# Altium schematic symbol library ATSAM3x8E_BGA.SchLib: 18 symbols
Pins are listed as number, name and electrical type; pins without a type are passive.

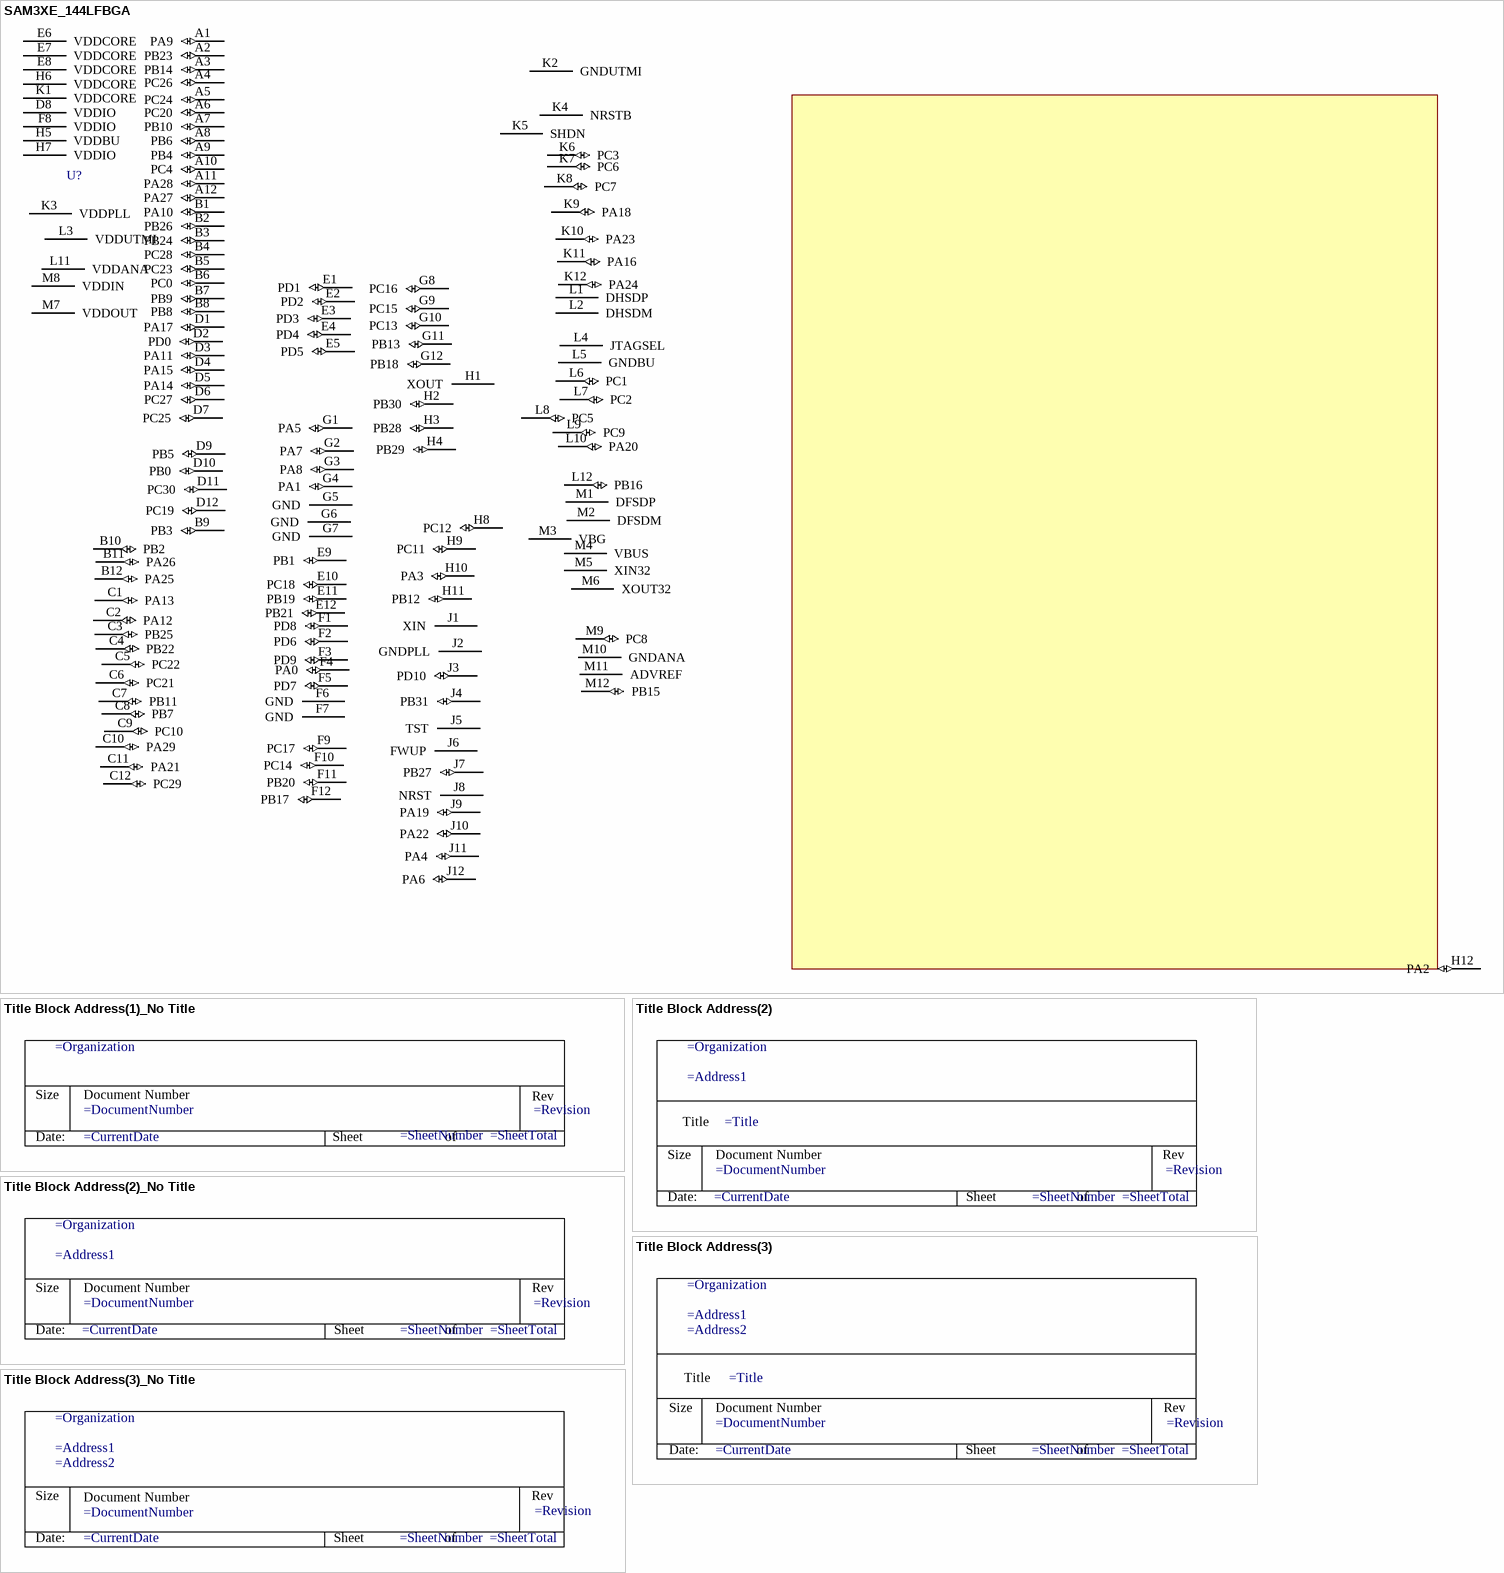
[diagram p0: symbols SAM3XE_144LFBGA to Title Block Address(3)_No Title]

## SAM3XE_144LFBGA
designator U?  (value not drawn)  (graphical)
pins: A1 PA9 (io), A2 PB23 (io), A3 PB14 (io), A4 PC26 (io), A5 PC24 (io), A6 PC20 (io), A7 PB10 (io), A8 PB6 (io), A9 PB4 (io), A10 PC4 (io), A11 PA28 (io), A12 PA27 (io), B1 PA10 (io), B2 PB26 (io), B3 PB24 (io), B4 PC28 (io), B5 PC23 (io), B6 PC0 (io), B7 PB9 (io), B8 PB8 (io), B9 PB3 (io), B10 PB2 (io), B11 PA26 (io), B12 PA25 (io), C1 PA13 (io), C2 PA12 (io), C3 PB25 (io), C4 PB22 (io), C5 PC22 (io), C6 PC21 (io), C7 PB11 (io), C8 PB7 (io), C9 PC10 (io), C10 PA29 (io), C11 PA21 (io), C12 PC29 (io), D1 PA17 (io), D2 PD0 (io), D3 PA11 (io), D4 PA15 (io), D5 PA14 (io), D6 PC27 (io), D7 PC25 (io), D8 VDDIO (power), D9 PB5 (io), D10 PB0 (io), D11 PC30 (io), D12 PC19 (io), E1 PD1 (io), E2 PD2 (io), E3 PD3 (io), E4 PD4 (io), E5 PD5 (io), E6 VDDCORE (power), E7 VDDCORE (power), E8 VDDCORE (power), E9 PB1 (io), E10 PC18 (io), E11 PB19 (io), E12 PB21 (io), F1 PD8 (io), F2 PD6 (io), F3 PD9 (io), F4 PA0 (io), F5 PD7 (io), F6 GND (power), F7 GND (power), F8 VDDIO (power), F9 PC17 (io), F10 PC14 (io), F11 PB20 (io), F12 PB17 (io), G1 PA5 (io), G2 PA7 (io), G3 PA8 (io), G4 PA1 (io), G5 GND (power), G6 GND (power), G7 GND (power), G8 PC16 (io), G9 PC15 (io), G10 PC13 (io), G11 PB13 (io), G12 PB18 (io), H1 XOUT, H2 PB30 (io), H3 PB28 (io), H4 PB29 (io), H5 VDDBU (power), H6 VDDCORE (power), H7 VDDIO (power), H8 PC12 (io), H9 PC11 (io), H10 PA3 (io), H11 PB12 (io), H12 PA2 (io), J1 XIN, J2 GNDPLL (power), J3 PD10 (io), J4 PB31 (io), J5 TST, J6 FWUP, J7 PB27 (io), J8 NRST, J9 PA19 (io), J10 PA22 (io), J11 PA4 (io), J12 PA6 (io), K1 VDDCORE (power), K2 GNDUTMI (power), K3 VDDPLL (power), K4 NRSTB, K5 SHDN, K6 PC3 (io), K7 PC6 (io), K8 PC7 (io), K9 PA18 (io), K10 PA23 (io), K11 PA16 (io), K12 PA24 (io), L1 DHSDP, L2 DHSDM, L3 VDDUTMI (power), L4 JTAGSEL, L5 GNDBU (power), L6 PC1 (io), L7 PC2 (io), L8 PC5 (io), L9 PC9 (io), L10 PA20 (io), L11 VDDANA (power), L12 PB16 (io), M1 DFSDP, M2 DFSDM, M3 VBG, M4 VBUS, M5 XIN32, M6 XOUT32, M7 VDDOUT (power), M8 VDDIN (power), M9 PC8 (io), M10 GNDANA (power), M11 ADVREF, M12 PB15 (io)

## Title Block Address(1)_No Title
designator ?  (graphical)
Total Sheets: =SheetTotal; Sheet Number: =SheetNumber; Organization Name: =Organization; Revision Number: =Revision; Date: =CurrentDate; Document Number: =DocumentNumber
text: Size; Document Number; Rev; Date:; Sheet; of

## Title Block Address(2)
designator ?  (graphical)
Total Sheets: =SheetTotal; Sheet Number: =SheetNumber; Organization Address 1: =Address1; Organization Name: =Organization; Revision Number: =Revision; Date: =CurrentDate; Document Number: =DocumentNumber; Sheet Title: =Title
text: Title; Size; Document Number; Rev; Date:; Sheet; of

## Title Block Address(2)_No Title
designator ?  (graphical)
Total Sheets: =SheetTotal; Sheet Number: =SheetNumber; Organization Address 1: =Address1; Organization Name: =Organization; Revision Number: =Revision; Date: =CurrentDate; Document Number: =DocumentNumber
text: Size; Document Number; Rev; Date:; Sheet; of

## Title Block Address(3)
designator ?  (graphical)
Revision Number: =Revision; Organization Name: =Organization; Organization Address 1: =Address1; Organization Address 2: =Address2; Sheet Number: =SheetNumber; Total Sheets: =SheetTotal; Date: =CurrentDate; Document Number: =DocumentNumber; Sheet Title: =Title
text: Title; Size; Document Number; Rev; Date:; Sheet; of

## Title Block Address(3)_No Title
designator ?  (graphical)
Revision Number: =Revision; Organization Name: =Organization; Organization Address 1: =Address1; Organization Address 2: =Address2; Sheet Number: =SheetNumber; Total Sheets: =SheetTotal; Date: =CurrentDate; Document Number: =DocumentNumber
text: Size; Rev; Document Number; Date:; Sheet; of

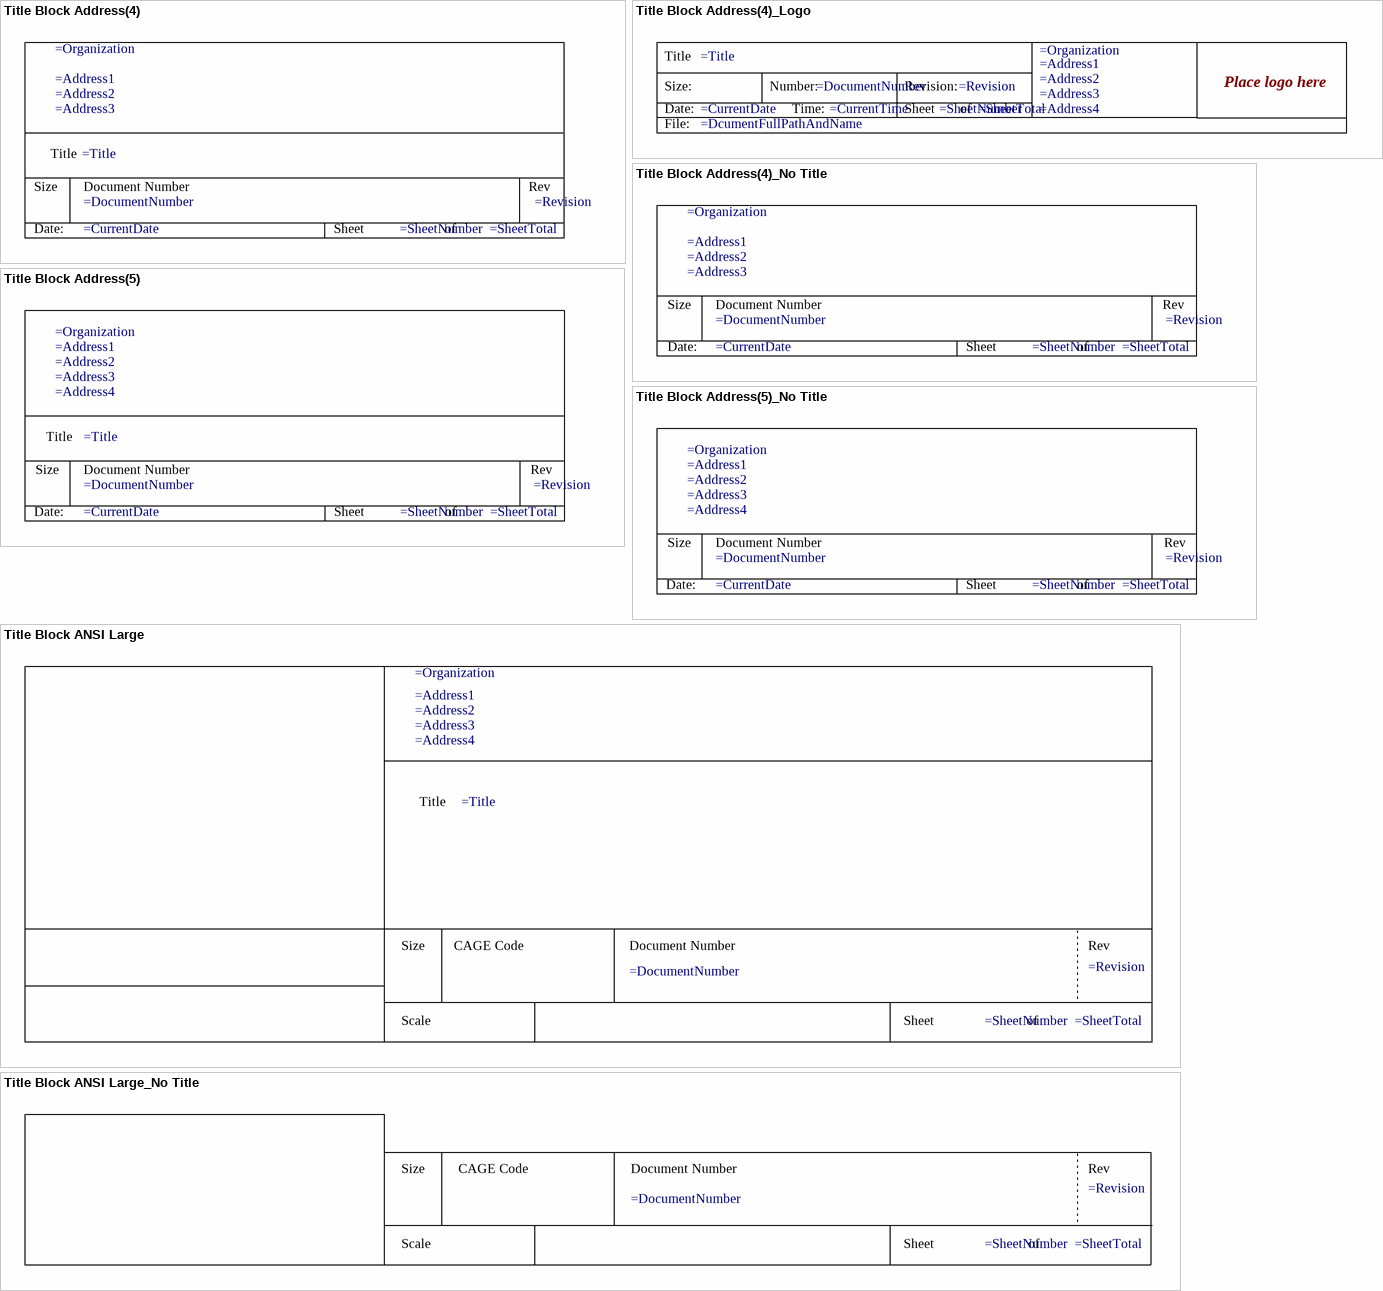
[diagram p1: symbols Title Block Address(4) to Title Block ANSI Large_No Title]

## Title Block Address(4)
designator ?  (graphical)
Total Sheets: =SheetTotal; Sheet Number: =SheetNumber; Organization Address 3: =Address3; Organization Address 2: =Address2; Organization Address 1: =Address1; Organization Name: =Organization; Revision Number: =Revision; Date: =CurrentDate; Document Number: =DocumentNumber; Sheet Title: =Title
text: Title; Size; Document Number; Rev; Date:; Sheet; of

## Title Block Address(4)_Logo
designator ?  (graphical)
Sheet Title: =Title; Document Number: =DocumentNumber; Organization Name: =Organization; Revision Number: =Revision; Organization Address 1: =Address1; Organization Address 2: =Address2; Organization Address 3: =Address3; Organization Address 4: =Address4; Date: =CurrentDate; Time: =CurrentTime; Document Path and Name: =DcumentFullPathAndName; Total Sheets: =SheetTotal; Sheet Number: =SheetNumber
text: Title; Size:; Number:; Revision:; Place logo here; Date:; Time:; Sheet; of; File:

## Title Block Address(4)_No Title
designator ?  (graphical)
Total Sheets: =SheetTotal; Sheet Number: =SheetNumber; Organization Address 3: =Address3; Organization Address 2: =Address2; Organization Address 1: =Address1; Organization Name: =Organization; Revision Number: =Revision; Date: =CurrentDate; Document Number: =DocumentNumber
text: Size; Document Number; Rev; Date:; Sheet; of

## Title Block Address(5)
designator ?  (graphical)
Revision Number: =Revision; Organization Name: =Organization; Organization Address 1: =Address1; Organization Address 2: =Address2; Organization Address 3: =Address3; Organization Address 4: =Address4; Sheet Number: =SheetNumber; Total Sheets: =SheetTotal; Date: =CurrentDate; Document Number: =DocumentNumber; Sheet Title: =Title
text: Title; Size; Document Number; Rev; Date:; Sheet; of

## Title Block Address(5)_No Title
designator ?  (graphical)
Revision Number: =Revision; Organization Name: =Organization; Organization Address 1: =Address1; Organization Address 2: =Address2; Organization Address 3: =Address3; Organization Address 4: =Address4; Sheet Number: =SheetNumber; Total Sheets: =SheetTotal; Date: =CurrentDate; Document Number: =DocumentNumber
text: Size; Document Number; Rev; Date:; Sheet; of

## Title Block ANSI Large
designator ?  (graphical)
Revision Number: =Revision; Organization Address 3: =Address3; Organization Address 2: =Address2; Organization Address 1: =Address1; Total Sheets: =SheetTotal; Sheet Number: =SheetNumber; Organization Name: =Organization; Organization Address 4: =Address4; Document Number: =DocumentNumber; Sheet Title: =Title
text: Title; Size; CAGE Code; Document Number; Rev; Scale; Sheet; of

## Title Block ANSI Large_No Title
designator ?  (graphical)
Total Sheets: =SheetTotal; Sheet Number: =SheetNumber; Revision Number: =Revision; Document Number: =DocumentNumber
text: Size; CAGE Code; Document Number; Rev; Scale; Sheet; of

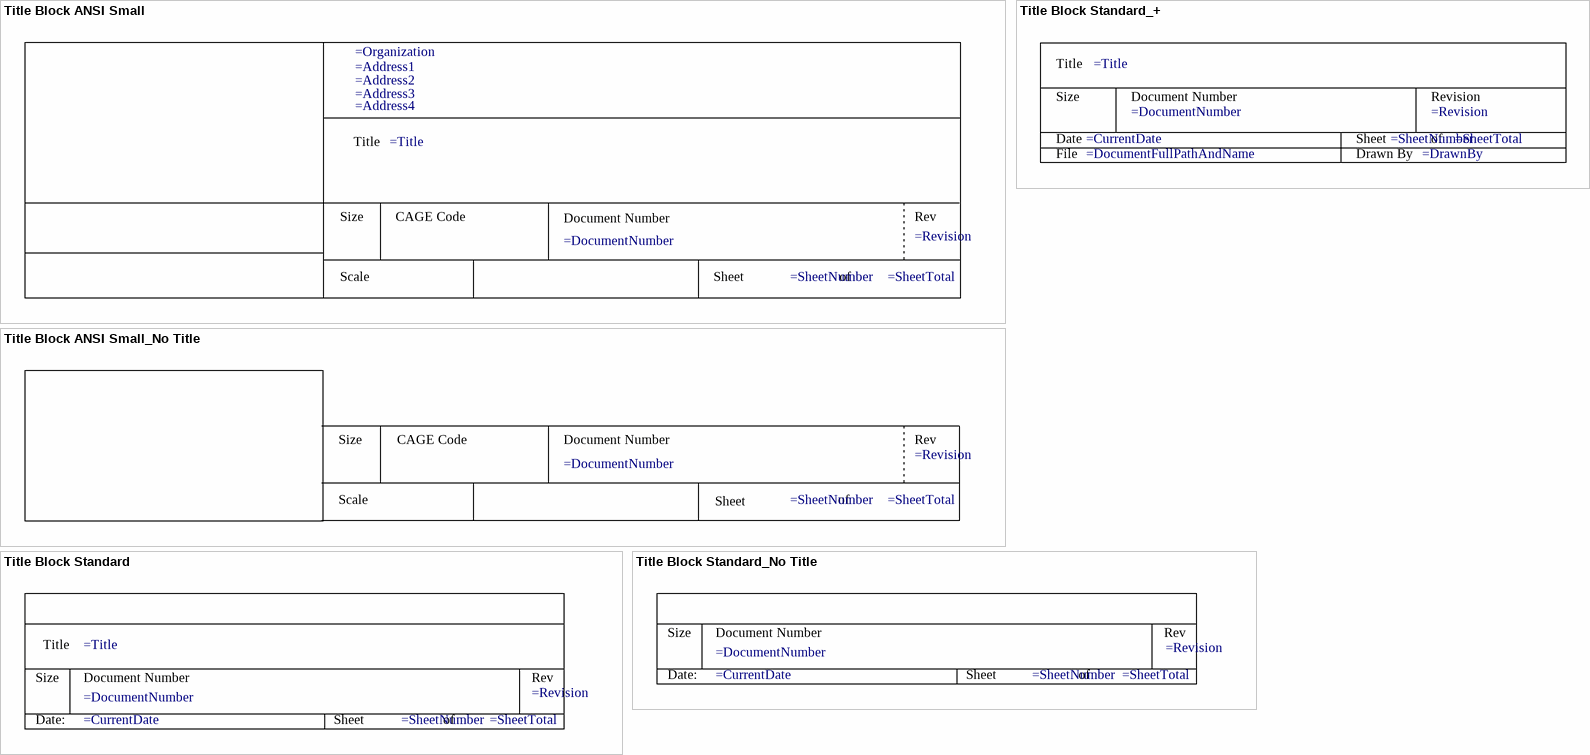
[diagram p2: symbols Title Block ANSI Small to Title Block Standard_No Title]

## Title Block ANSI Small
designator ?  (graphical)
Organization Address 4: =Address4; Revision Number: =Revision; Organization Name: =Organization; Sheet Number: =SheetNumber; Total Sheets: =SheetTotal; Organization Address 1: =Address1; Organization Address 2: =Address2; Organization Address 3: =Address3; Sheet Title: =Title; Document Number: =DocumentNumber
text: Title; Size; CAGE Code; Rev; Document Number; Scale; Sheet; of

## Title Block ANSI Small_No Title
designator ?  (graphical)
Total Sheets: =SheetTotal; Sheet Number: =SheetNumber; Revision Number: =Revision; Document Number: =DocumentNumber
text: Size; CAGE Code; Document Number; Rev; Scale; of; Sheet

## Title Block Standard
designator ?  (graphical)
Revision Number: =Revision; Sheet Number: =SheetNumber; Total Sheets: =SheetTotal; Date: =CurrentDate; Sheet Title: =Title; Document Number: =DocumentNumber
text: Title; Size; Document Number; Rev; Date:; Sheet; of

## Title Block Standard_+
designator ?  (graphical)
Drawn By: =DrawnBy; Sheet Title: =Title; Document Number: =DocumentNumber; Revision Number: =Revision; Date: =CurrentDate; Total Sheets: =SheetTotal; Sheet Number: =SheetNumber; Document Path and Name: =DocumentFullPathAndName
text: Title; Size; Document Number; Revision; Date; Sheet; of; File; Drawn By

## Title Block Standard_No Title
designator ?  (graphical)
Total Sheets: =SheetTotal; Sheet Number: =SheetNumber; Revision Number: =Revision; Date: =CurrentDate; Document Number: =DocumentNumber
text: Size; Document Number; Rev; Date:; Sheet; of